# EAGLE library part MICROSIM-8P_SDCARD-8P_MOLEX-104642-1610 (library df4iah_connector)
Mikro-SIM and Mikro-SD-Cardholder 8 pins and 8 pins
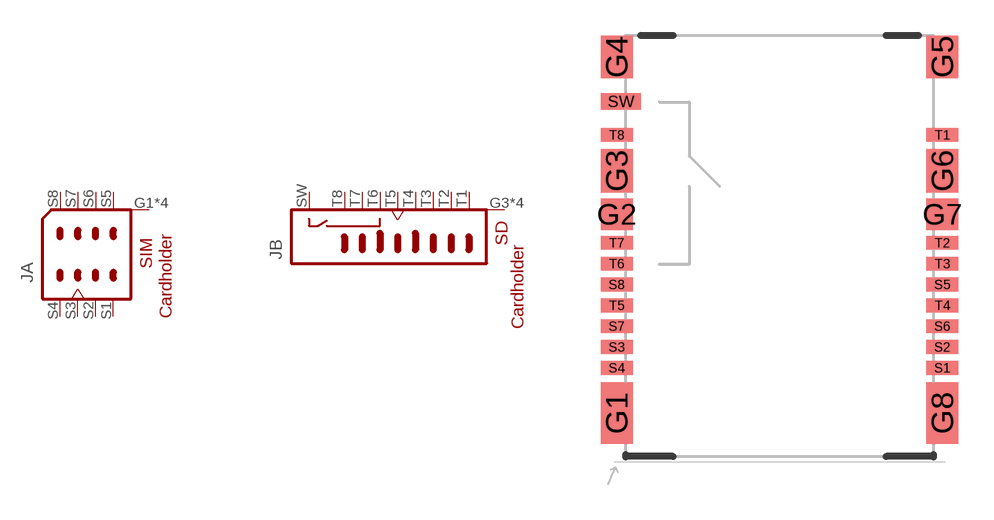
[diagram p13: symbol with the pads of MICROSIM-8P_SDCARD-8P_MOLEX-104642-1610; footprint MICROSIM-8P_SDCARD-8P_MOLEX-104642-1610]

Designator prefix J; gates A=SIMCARD-8P B=SDCARD-8P

## MICROSIM-8P_SDCARD-8P_MOLEX-104642-1610 (MPN: MOLEX-104642-1610; OC_FARNELL: 2545018)  [MICROSIM-8P_SDCARD-8P_MOLEX-104642-1610]
G1  A:SHIELD  pas
G2  A:SHIELD  pas
G3  B:SHIELD  pas
G4  B:SHIELD  pas
G5  B:SHIELD  pas
G6  B:SHIELD  pas
G7  A:SHIELD  pas
G8  A:SHIELD  pas
S1  A:S1  pwr
S2  A:S2
S3  A:S3  in
S4  A:S4  pas
S5  A:S5  pas
S6  A:S6  pwr
S7  A:S7
S8  A:S8  pas
SW  B:SW  pas
T1  B:T1
T2  B:T2
T3  B:T3
T4  B:T4  pwr
T5  B:T5  in
T6  B:T6  pas
T7  B:T7
T8  B:T8

## Footprint MICROSIM-8P_SDCARD-8P_MOLEX-104642-1610 (pad centres in mm)
smd 1.35 x 2.6: G1 -6.875,-7.04; G8 6.875,-7.04
smd 1.35 x 1.34: G2 -6.875,1.36; G7 6.875,1.36
smd 1.35 x 1.84: G3 -6.875,3.2; G6 6.875,3.2
smd 1.35 x 1.8: G4 -6.875,8.01; G5 6.875,8.01
smd 1.35 x 0.58: S1 6.875,-5.13; S2 6.875,-4.25; S3 -6.875,-4.25; S4 -6.875,-5.13; S5 6.875,-1.61; S6 6.875,-3.37; S7 -6.875,-3.37; S8 -6.875,-1.61; T1 6.875,4.71; T2 6.875,0.15; T3 6.875,-0.73; T4 6.875,-2.49; T5 -6.875,-2.49; T6 -6.875,-0.73; T7 -6.875,0.15; T8 -6.875,4.71
smd 1.7 x 0.7: SW -6.7,6.125